# Altium schematic symbol library POP_lib.SchLib: 13 symbols
Pins are listed as number, name and electrical type; pins without a type are passive.

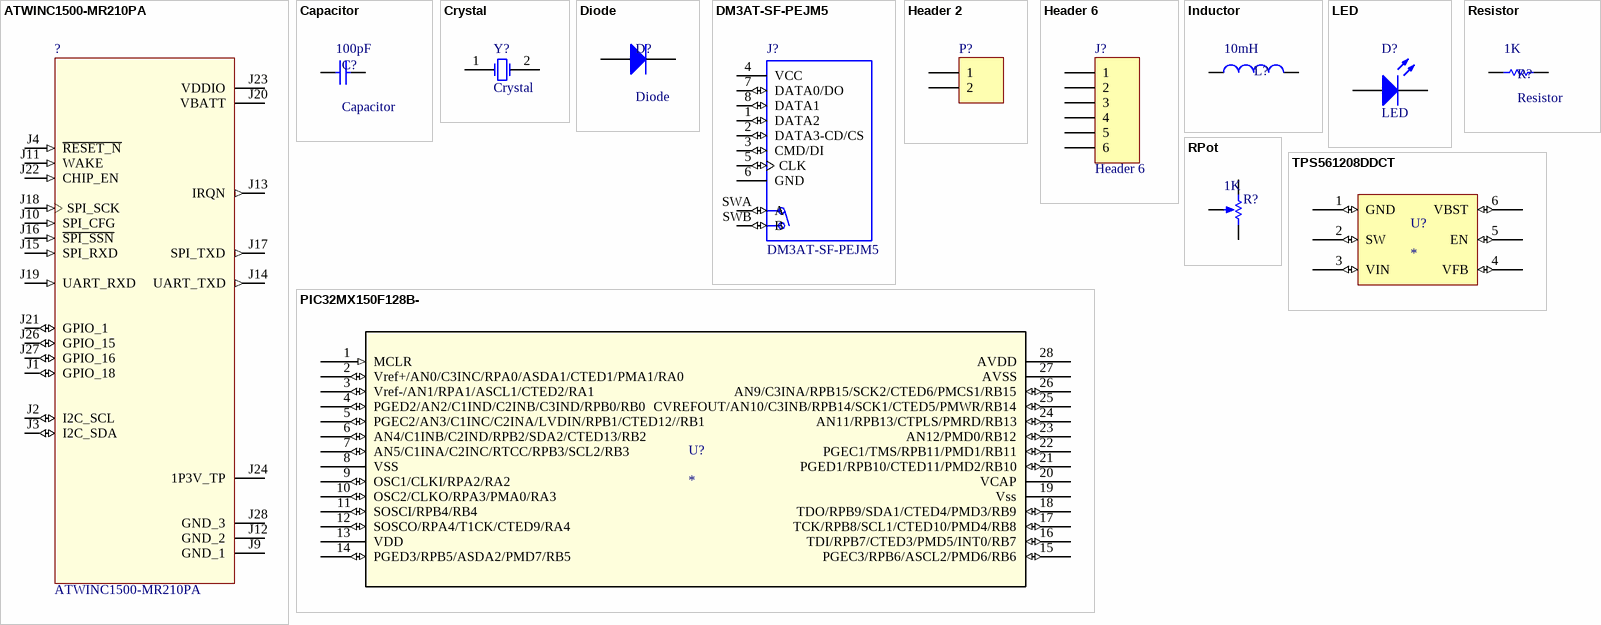
[diagram p0: symbols ATWINC1500-MR210PA to TPS561208DDCT]

## ATWINC1500-MR210PA
designator ?
Certified Module with ATWINC1500A-Mu Chip and PCB Antenna; MF: Microchip; Availability: Bad; Price: 14.92 USD; MP: ATWINC1500-MR210PA; Package: SMD-28 Microchip; SnapEDA_Link: https://www.snapeda.com/symbols-footprints/ATWINC1500-MR210PA/Microchip/view-part/?ref=snap; Value: *
footprint ATMEL_ATWINC1500-MR210PA_ATWINC1500-MR210PA(Primary)
pins: J1 GPIO_18 (io), J2 I2C_SCL (io), J3 I2C_SDA (io), J4 ~{RESET_N} (in), J9 GND_1, J10 SPI_CFG (in), J11 WAKE (in), J12 GND_2, J13 IRQN (out), J14 UART_TXD (out), J15 SPI_RXD (in), J16 ~{SPI_SSN} (in), J17 SPI_TXD (out), J18 SPI_SCK (in), J19 UART_RXD (in), J20 VBATT (power), J21 GPIO_1 (io), J22 CHIP_EN (in), J23 VDDIO (power), J24 1P3V_TP, J26 GPIO_15 (io), J27 GPIO_16 (io), J28 GND_3

## Capacitor
designator C?  value 100pF
Published: 8-Jun-2000; LatestRevisionDate: 17-Jul-2002; LatestRevisionNote: Re-released for DXP Platform.; PackageReference: RAD-0.3; Publisher: Altium Limited; PackageDescription: Radial Cap, Thru-Hole; 2 Leads; 0.3 in Pin Spacing
footprint 1608/0603
footprint 2012/0805
pins: 1, 2

## Crystal
designator Y?
Crystal Oscillator; Published: 8-Jun-2000; LatestRevisionDate: 17-Jul-2002; LatestRevisionNote: Re-released for DXP Platform.; PackageReference: R38; Publisher: Altium Limited; PackageDescription: Crystal, Thru-Hole; 2 Leads; Body 3.1 x 8.2 mm (Dia.xH)
footprint XTAL139X50X45
pins: 1 OSC1, 2 OSC2

## Diode
designator D?
Note: Pin 2 is not connected and not drawn.; Published: 21-Mar-2003; LatestRevisionDate: 29-May-2009; LatestRevisionNote: IPC-7351 Footprint Added.; DatasheetVersion: Oct-1999; PackageVersion: Sep-2001; PackageReference: SOT-23; Publisher: Altium Limited; PackageDescription: 3-Pin SOT-23 Package 0.95 mm Pitch, 2.5 mm Lead Span; ComponentLink1Description: Manufacturer Link; ComponentLink1URL: http://www.infineon.com/; ComponentLink2Description: Datasheet; ComponentLink2URL: http://www.infineon.com/upload/Document/cmc_upload/documents/012/5331/bas16series.pdf
footprint SMA/DO-214AC_21
pins: 1 A, 2 K

## DM3AT-SF-PEJM5
designator J?
DM3 RA SMT microSD memory card push/push; MF: Hirose; MP: DM3AT-SF-PEJM5; Availability: Warning; Package: None; Price: 2.58 USD; SnapEDA_Link: https://www.snapeda.com/symbols-footprints/DM3AT-SF-PEJM5/Hirose%20Electric%20Co%20Ltd/view-part/?ref=snap; Value: *
footprint HRS_DM3AT-SF-PEJM5_DM3AT-SF-PEJM5(Primary)
pins: 1 DATA2 (io), 2 DATA3-CD/CS (io), 3 CMD/DI (io), 4 VCC (power), 5 CLK (io), 6 GND (power), 7 DATA0/DO (io), 8 DATA1 (io), SWA A (io), SWB B (io)

## Header 2
designator P?
Header, 2-Pin; LatestRevisionDate: 17-Jul-2002; LatestRevisionNote: Re-released for DXP Platform.; Publisher: Altium Limited
footprint PHOENIX_1985195
pins: 1, 2

## Header 6
designator J?
Header, 6-Pin; LatestRevisionDate: 17-Jul-2002; LatestRevisionNote: Re-released for DXP Platform.; Publisher: Altium Limited
footprint TD03B_N
pins: 1, 2, 3, 4, 5, 6

## Inductor
designator L?  value 10mH
Inductor; Code_IEC: 1005; Published: 8-Jun-2000; LatestRevisionDate: 29-May-2009; LatestRevisionNote: IPC-7351 Footprint Added.; PackageReference: 0402-A; Publisher: Altium Limited; PackageDescription: Chip Inductor; Code_JEITA: 0402
footprint INDC1608AN
pins: 1, 2

## LED
designator D?
Published: 8-Jun-2000; LatestRevisionDate: 08-Jul-2005; LatestRevisionNote: Mech Layer 1 removed.; PackageReference: LED-0; Publisher: Altium Limited; PackageDescription: LED; 2 Leads
footprint 2012/0805
pins: 1 A, 2 K

## PIC32MX150F128B-
designator U?
PIC32; Value: Value; Type: Type; RefDes: RefDes
footprint SOIC127P1030X265-28N
pins: 1 MCLR (in), 2 Vref+/AN0/C3INC/RPA0/ASDA1/CTED1/PMA1/RA0 (io), 3 Vref-/AN1/RPA1/ASCL1/CTED2/RA1 (io) "v", 4 PGED2/AN2/C1IND/C2INB/C3IND/RPB0/RB0 (io), 5 PGEC2/AN3/C1INC/C2INA/LVDIN/RPB1/CTED12//RB1 (io), 6 AN4/C1INB/C2IND/RPB2/SDA2/CTED13/RB2 (io), 7 AN5/C1INA/C2INC/RTCC/RPB3/SCL2/RB3 (io), 8 VSS (power), 9 OSC1/CLKI/RPA2/RA2 (io), 10 OSC2/CLKO/RPA3/PMA0/RA3 (io), 11 SOSCI/RPB4/RB4 (io), 12 SOSCO/RPA4/T1CK/CTED9/RA4 (io), 13 VDD (power), 14 PGED3/RPB5/ASDA2/PMD7/RB5 (io), 15 PGEC3/RPB6/ASCL2/PMD6/RB6 (io), 16 TDI/RPB7/CTED3/PMD5/INT0/RB7 (io), 17 TCK/RPB8/SCL1/CTED10/PMD4/RB8 (io), 18 TDO/RPB9/SDA1/CTED4/PMD3/RB9 (io), 19 Vss (power), 20 VCAP (power), 21 PGED1/RPB10/CTED11/PMD2/RB10 (io), 22 PGEC1/TMS/RPB11/PMD1/RB11 (io), 23 AN12/PMD0/RB12 (io), 24 AN11/RPB13/CTPLS/PMRD/RB13 (io), 25 CVREFOUT/AN10/C3INB/RPB14/SCK1/CTED5/PMWR/RB14 (io), 26 AN9/C3INA/RPB15/SCK2/CTED6/PMCS1/RB15 (io), 27 AVSS (power), 28 AVDD (power)

## Resistor
designator R?  value 1K
Published: 8-Jun-2000; LatestRevisionDate: 17-Jul-2002; LatestRevisionNote: Re-released for DXP Platform.; PackageReference: AXIAL-0.3; Publisher: Altium Limited; PackageDescription: Axial Device, Thru-Hole; 2 Leads; 0.3 in Pin Spacing
footprint 1608/0603
pins: 1, 2

## RPot
designator R?  value 1K
Potentiometer; Sim Note: Enter the Resistance value and the set point into parameter fields.; Set Position: 0.5; Published: 8-Jun-2000; LatestRevisionDate: 17-Jul-2002; LatestRevisionNote: Re-released for DXP Platform.; PackageReference: VR5; Publisher: Altium Limited; PackageDescription: Variable Resistor, Thru-Hole; 3 Leads
footprint Potentiometer
pins: 1, 2, 3
1 alternate drawing of the same symbol

## TPS561208DDCT
designator U?
Voltage Regulator
pins: 1 GND (io), 2 SW (io), 3 VIN (io), 4 VFB (io), 5 EN (io), 6 VBST (io)